# EAGLE library part TPS61032 (library HAB)
TPS61032 5 V, 3.6 A Step-up Converter in TSSOP16 (296-14418-1-ND)
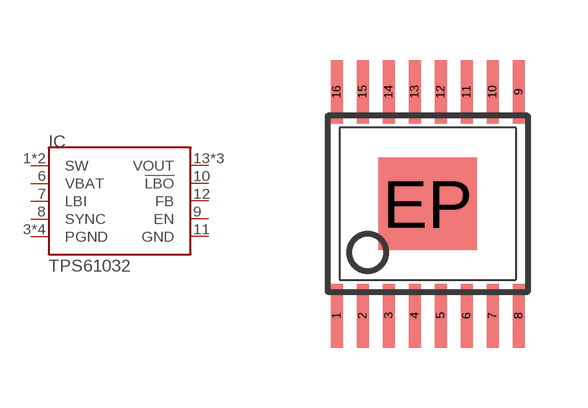
[diagram p2: symbol with the pads of TSSOP16-EP; footprint TSSOP16-EP]

Designator prefix IC

## TPS61032  [TSSOP16-EP]
1  SW  pas
2  SW  pas
3  PGND  pwr
4  PGND  pwr
5  PGND  pwr
6  VBAT  pwr
7  LBI  pas
8  SYNC  in
9  EN  in
10  !LBO!  oc
11  GND  pwr
12  FB  pas
13  VOUT  pwr
14  VOUT  pwr
15  VOUT  pwr
EP  PGND  pwr

## Footprint TSSOP16-EP (pad centres in mm)
Thin Shrink Small Outline Plastic 16 TPS61032
smd 0.3 x 1.6: 1 -2.275,-2.8; 2 -1.625,-2.8; 3 -0.975,-2.8; 4 -0.325,-2.8; 5 0.325,-2.8; 6 0.975,-2.8; 7 1.625,-2.8; 8 2.275,-2.8; 9 2.275,2.8; 10 1.625,2.8; 11 0.975,2.8; 12 0.325,2.8; 13 -0.325,2.8; 14 -0.975,2.8; 15 -1.625,2.8; 16 -2.275,2.8
smd 2.46 x 2.31: EP 0,0